# EAGLE library part 10PIN (library Connectors)
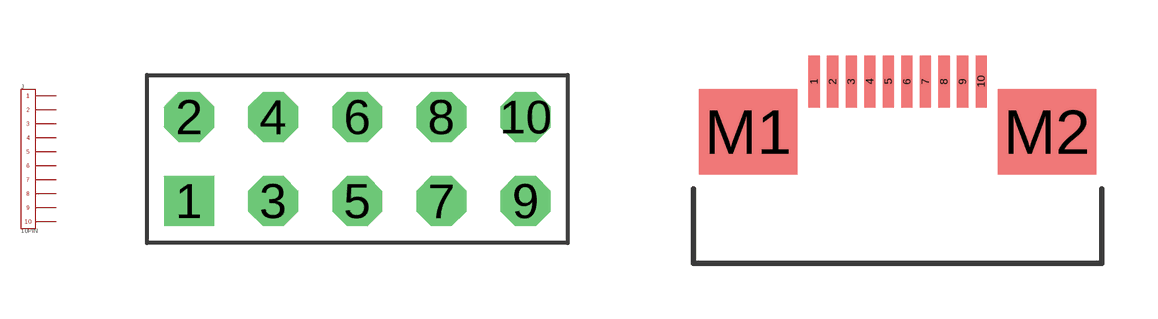
[diagram p6: symbol with the pads of 10PIN_HEADER_2ROW_2.54PITCH_TH; footprints 10PIN_HEADER_2ROW_2.54PITCH_TH, SFV10R-2STE1HLF]

Designator prefix J

## 10PIN_2ROW_2.54PITCH_TH  [10PIN_HEADER_2ROW_2.54PITCH_TH]
1  1  pas
2  2  pas
3  3  pas
4  4  pas
5  5  pas
6  6  pas
7  7  pas
8  8  pas
9  9  pas
10  10  pas

## 10PIN_SFV10R-2STE1HLF  [SFV10R-2STE1HLF]
Pads as for 10PIN_HEADER_2ROW_2.54PITCH_TH

## 10PIN_TE_1-2201197-0  [10PIN_BTB_TE_1-2201197-0]
Pads as for 10PIN_HEADER_2ROW_2.54PITCH_TH

## 10PIN_DF23C-10DS-0.5V  [10PIN_BTB_DF23C-10DS-0.5V]
Pads as for 10PIN_HEADER_2ROW_2.54PITCH_TH

## 10PINDF23C-10DP-0.5V  [10PIN_BTB_DF23C-10DP-0.5V]
Pads as for 10PIN_HEADER_2ROW_2.54PITCH_TH

## Footprint 10PIN_HEADER_2ROW_2.54PITCH_TH (pad centres in mm)
drill 1 square: 1 -5.08,-1.27
drill 1 octagon: 2 -5.08,1.27; 3 -2.54,-1.27; 4 -2.54,1.27; 5 0,-1.27; 6 0,1.27; 7 2.54,-1.27; 8 2.54,1.27; 9 5.08,-1.27; 10 5.08,1.27

## Footprint SFV10R-2STE1HLF (pad centres in mm)
smd 0.3 x 1.4: 1 -2.25,0.4; 2 -1.75,0.4; 3 -1.25,0.4; 4 -0.75,0.4; 5 -0.25,0.4; 6 0.25,0.4; 7 0.75,0.4; 8 1.25,0.4; 9 1.75,0.4; 10 2.25,0.4
smd 2.65 x 2.3: M1 -4.025,-0.95; M2 4.025,-0.95

## Footprint 10PIN_BTB_TE_1-2201197-0 (pad centres in mm)
smd 0.23 x 0.63: 1 -0.8,1.325; 2 -0.4,1.325; 3 0,1.325; 4 0.4,1.325; 5 0.8,1.325; 6 0.8,-1.325; 7 0.4,-1.325; 8 0,-1.325; 9 -0.4,-1.325; 10 -0.8,-1.325
smd 0.38 x 1.1: S1 -2.04,0; S2 2.04,0

## Footprint 10PIN_BTB_DF23C-10DS-0.5V (pad centres in mm)
smd 0.254 x 1.1: 1 -1,2.75; 2 -0.5,2.75; 3 0,2.75; 4 0.5,2.75; 5 1,2.75; 6 1,-2.75; 7 0.5,-2.75; 8 0,-2.75; 9 -0.5,-2.75; 10 -1,-2.75

## Footprint 10PIN_BTB_DF23C-10DP-0.5V (pad centres in mm)
smd 0.254 x 1: 1 -1,-1.95; 2 -0.5,-1.95; 3 0,-1.95; 4 0.5,-1.95; 5 1,-1.95; 6 1,1.95; 7 0.5,1.95; 8 0,1.95; 9 -0.5,1.95; 10 -1,1.95